# EAGLE library part IR2302 (library NBitWonder)
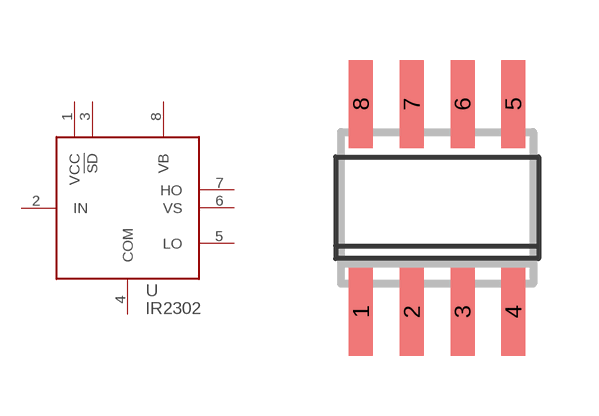
[diagram p11: symbol with the pads of SO-08; footprint SO-08]

Designator prefix -

## IR2302  [SO-08]
1  VCC  pwr
2  IN  in
3  !SD  in
4  COM  pwr
5  LO  out
6  VS  pwr
7  HO  out
8  VB  pwr

## Footprint SO-08 (pad centres in mm)
D (R-PDSO-G8) Plastic Small Outline Package Source: http://focus.ti.com/lit/ds/symlink/sn65als176.pdf
smd 0.6 x 2.2: 1 -1.905,-2.6; 2 -0.635,-2.6; 3 0.635,-2.6; 4 1.905,-2.6; 5 1.905,2.6; 6 0.635,2.6; 7 -0.635,2.6; 8 -1.905,2.6